# EAGLE library part DS3231M (library Fitch_Eagle_Library)
RTC (real time clock), I2C communication
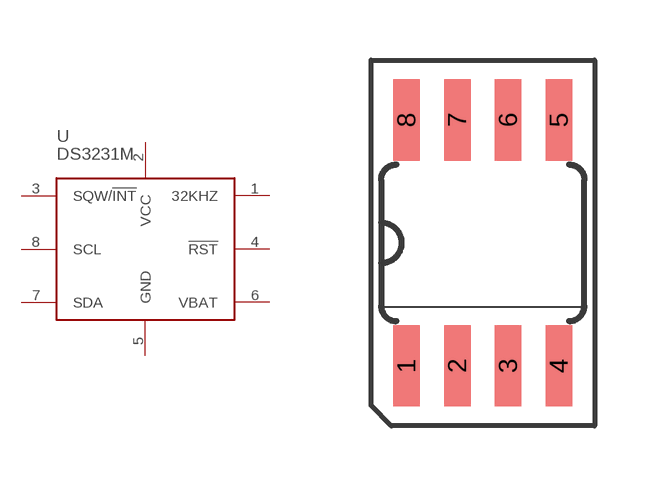
[diagram p22: symbol with the pads of 8-SOIC; footprint 8-SOIC]

Designator prefix -

## DS3231M  [8-SOIC]
1  32KHZ
2  VCC
3  SQW/!INT
4  !RST
5  GND
6  VBAT
7  SDA
8  SCL

## Footprint 8-SOIC (pad centres in mm)
smd 0.66 x 2.032: 1 -1.905,-3.073; 2 -0.635,-3.073; 3 0.635,-3.073; 4 1.905,-3.073; 5 1.905,3.073; 6 0.635,3.073; 7 -0.635,3.073; 8 -1.905,3.073